# Altium footprint library TO-263-6.PcbLib: 1 footprints
Each footprint in its own frame and in the unit in brackets; x right, y up, seen from the top. Pads: shape width x height; smd on the part's side, far side on the other; paste and mask are expansions set on the pad; w line width, h text height; cw(c..) or ccw(c..) is an arc to the next point about the centre after c.
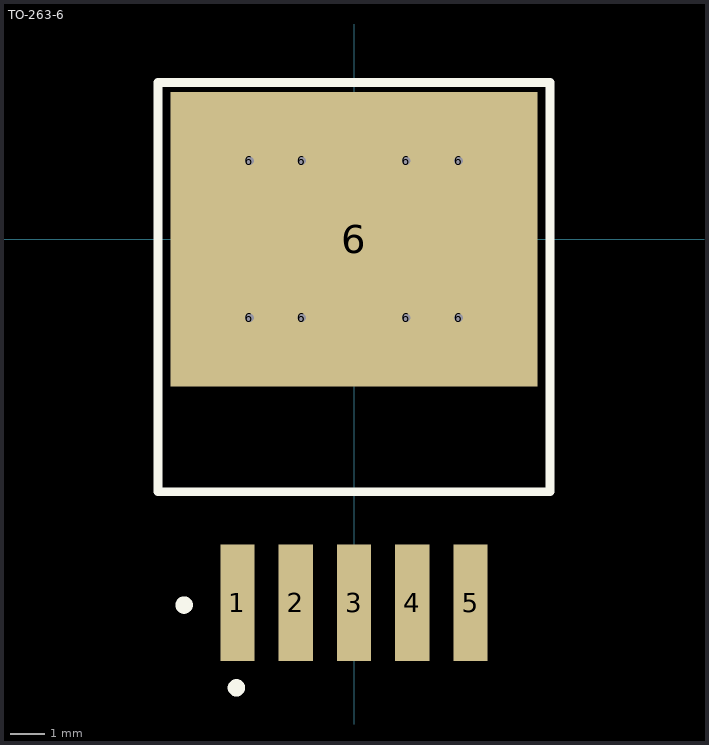
[diagram p0: the footprint, top view; thin cyan lines are the x and y axes]

## TO-263-6 [mil]
pads (14):
  rect 39.37x133.86 smd mask+2.76: 1(-133.86,-417.32) 2(-66.93,-417.32) 3(0,-417.32) 4(66.93,-417.32) 5(133.86,-417.32)
  round 18 hole 10: 6(-120,-90) 6(-120,90) 6(-60,-90) 6(-60,90) 6(60,-90) 6(60,90) 6(120,-90) 6(120,90)
  rect 421.26x338.58 smd: 6(0,0)
Top Overlay:
  circle w10: c-135,-515 r5
  circle w10: c-195,-420 r5
  lines w10: -225,-290 -225,180 225,180 225,-290 -225,-290
3D body: height 179.53, standoff 0, extent -200,-421.79 200,129.98